# Altium schematic symbol library TL2285OA.SchLib: 1 symbol
Pins are listed as number, name and electrical type; pins without a type are passive.

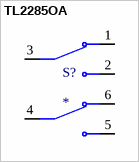
[diagram p0: symbol TL2285OA]

## TL2285OA
designator S?
MP: TL2285OA; MF: {'manufacturer': u'E-Switch'}; Availability: Unavailable; Package: None; Value: *; Price: None
footprint SW_TL2285OA
pins: 1 NC1, 2 NO1, 3 COM1, 4 COM2, 5 NO2, 6 NC2